# EAGLE library part INA152 (library INA152)
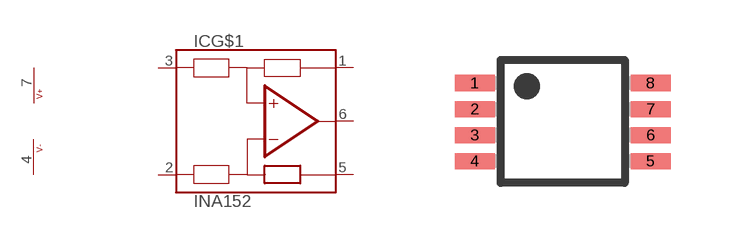
[diagram p0: symbol with the pads of DGK_S-PDSO-G8; footprint DGK_S-PDSO-G8]

Designator prefix IC; gates G$1=OPAMP G$2=PWR+-

## INA152EA (MARK: B52; MF: Texas Instruments; MPN: INA152EA)  [DGK_S-PDSO-G8]
1  G$1:REF  in
2  G$1:-IN  in
3  G$1:+IN  in
4  G$2:V-  pwr
5  G$1:SENSE  in
6  G$1:OUT  out
7  G$2:V+  pwr

## Footprint DGK_S-PDSO-G8 (pad centres in mm)
DGK (S-PDSO-G8) Source: http://focus.ti.com/lit/ds/scas794/scas794.pdf
smd 1 x 0.4: 1 -2.2,0.975; 2 -2.2,0.325; 3 -2.2,-0.325; 4 -2.2,-0.975; 5 2.2,-0.975; 6 2.2,-0.325; 7 2.2,0.325; 8 2.2,0.975